# Altium footprint library TO-92.PcbLib: 1 footprints
Each footprint in its own frame and in the unit in brackets; x right, y up, seen from the top. Pads: shape width x height; smd on the part's side, far side on the other; paste and mask are expansions set on the pad; w line width, h text height; cw(c..) or ccw(c..) is an arc to the next point about the centre after c.
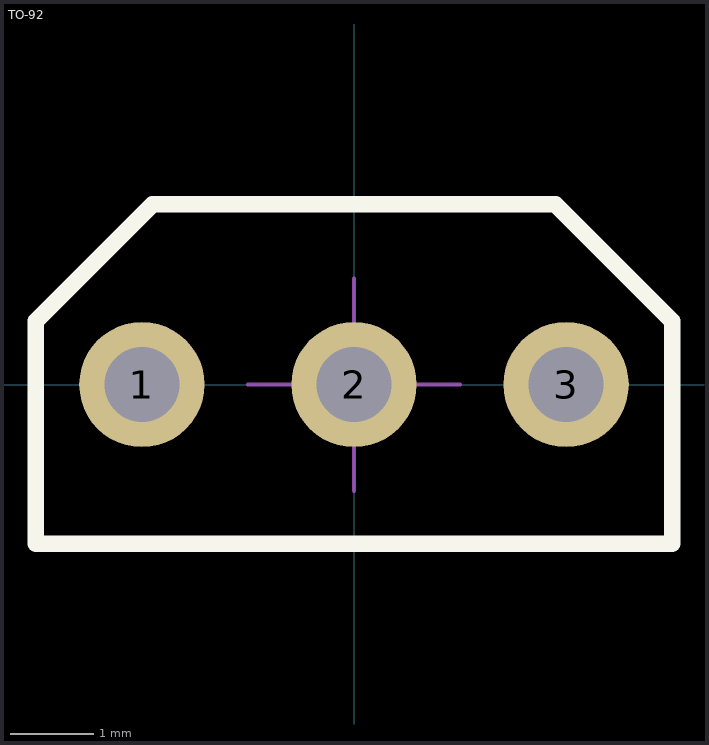
[diagram p0: the footprint, top view; thin cyan lines are the x and y axes]

## TO-92 [mm]
pads (3):
  round 1.5 hole 0.9: 1(-2.54,0) 2(0,0) 3(2.54,0)
Top Overlay:
  lines w0.2: -3.81,-1.905 -3.81,0.762 -2.413,2.159 2.413,2.159 3.81,0.762 3.81,-1.905 -3.81,-1.905
Mechanical 15:
  lines w0.05: -1.27,0 1.27,0 ; 0,-1.27 0,1.27 ; -3.81,-1.905 -3.81,0.762 -2.413,2.159 2.413,2.159 3.81,0.762 3.81,-1.905 -3.81,-1.905
3D body: height 9.78, standoff -2.62, extent -2.798,-1.778 2.798,2.152